# Altium footprint library SJ-43514-SMT-TR.PcbLib: 1 footprints
Each footprint in its own frame and in the unit in brackets; x right, y up, seen from the top. Pads: shape width x height; smd on the part's side, far side on the other; paste and mask are expansions set on the pad; w line width, h text height; cw(c..) or ccw(c..) is an arc to the next point about the centre after c.
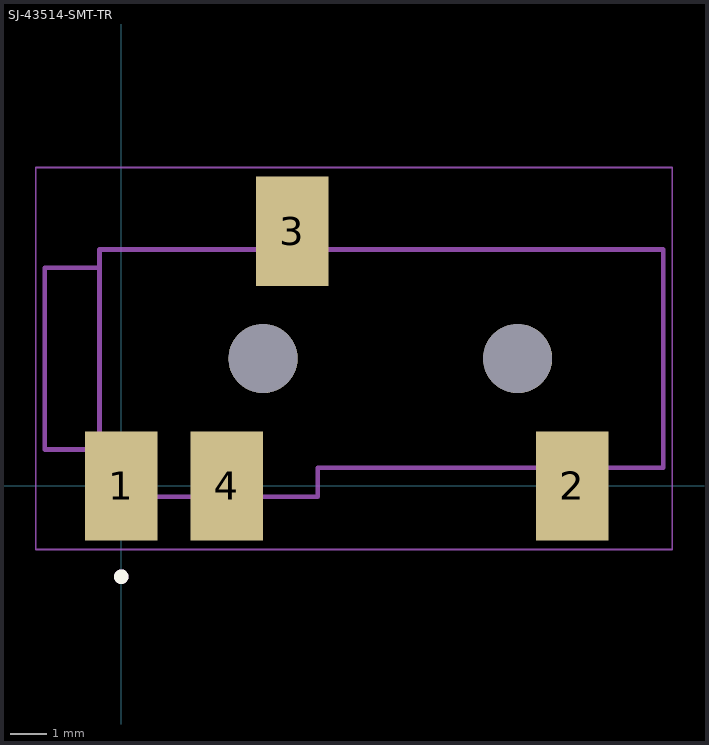
[diagram p0: the footprint, top view; thin cyan lines are the x and y axes]

## SJ-43514-SMT-TR [mm]
height 5.3
pads (6):
  rect 2x3 smd: 1(0,0) 2(12.4,0) 3(4.7,7) 4(2.9,0)
  round 1.9 hole 1.9 unplated: ""(3.9,3.5) ""(10.9,3.5)
Top Overlay:
  circle w0.2: c0,-2.5 r0.1
Mechanical 13:
  circle w0.2: c0,-2.5 r0.1
  lines w0.127: -0.6,1 -0.6,6 ; -0.6,1 -0.6,-0.3 5.4,-0.3 5.4,0.5 14.9,0.5 14.9,6.5 -0.6,6.5 -0.6,6 ; -0.6,1 -2.1,1 -2.1,6 -0.6,6
Mechanical 15:
  lines w0.05: -2.35,-1.75 -2.35,8.75 15.15,8.75 15.15,-1.75 -2.35,-1.75